# Altium schematic symbol library L_0402.Schlib: 1 symbol
Pins are listed as number, name and electrical type; pins without a type are passive.

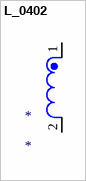
[diagram p0: symbol L_0402]

## L_0402
designator *
pins: 1 PRIMARY3, 2 PRIMARY4